# EAGLE library part LT1762 (library LT1762)
LT1762 150mA Low Noise LDO Regulator 1.8-20V Input 1.22-20V Output
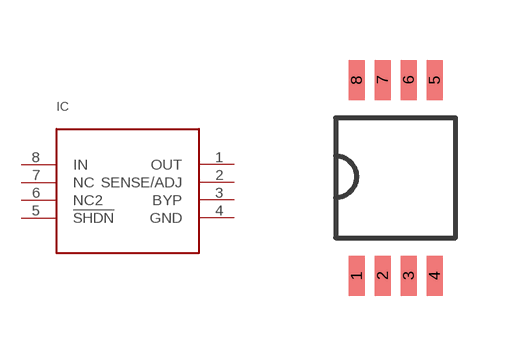
[diagram p0: symbol with the pads of MS8; footprint MS8]

Designator prefix IC

## LT1762  [MS8]
1  OUT
2  SENSE/ADJ
3  BYP
4  GND
5  !SHDN
6  NC2
7  NC
8  IN

## Footprint MS8 (pad centres in mm)
8 Pin MSOP Package
smd 0.4 x 1: 1 -0.975,-2.45; 2 -0.325,-2.45; 3 0.325,-2.45; 4 0.975,-2.45; 5 0.975,2.45; 6 0.325,2.45; 7 -0.325,2.45; 8 -0.975,2.45